# Altium schematic symbol library TPS25990ARQPR.SchLib: 1 symbol
Pins are listed as number, name and electrical type; pins without a type are passive.

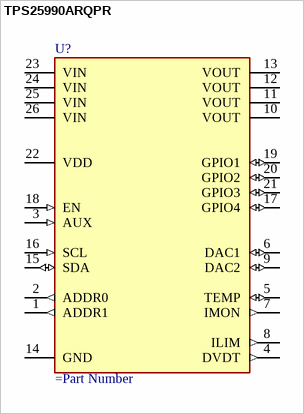
[diagram p0: symbol TPS25990ARQPR]

## TPS25990ARQPR
designator U?
pins: 1 ADDR1 (out), 2 ADDR0 (out), 3 AUX (in), 4 DVDT (out), 5 TEMP (io), 6 DAC1 (io), 7 IMON (out), 8 ILIM (out), 9 DAC2 (io), 10 VOUT (power), 11 VOUT (power), 12 VOUT (power), 13 VOUT (power), 14 GND (power), 15 SDA (io), 16 SCL (in), 17 GPIO4 (io), 18 EN (in), 19 GPIO1 (io), 20 GPIO2 (io), 21 GPIO3 (io), 22 VDD (power), 23 VIN (power), 24 VIN (power), 25 VIN (power), 26 VIN (power)